# Altium schematic symbol library Converter_ACDC.SchLib: 137 symbols (part 2 of 2)
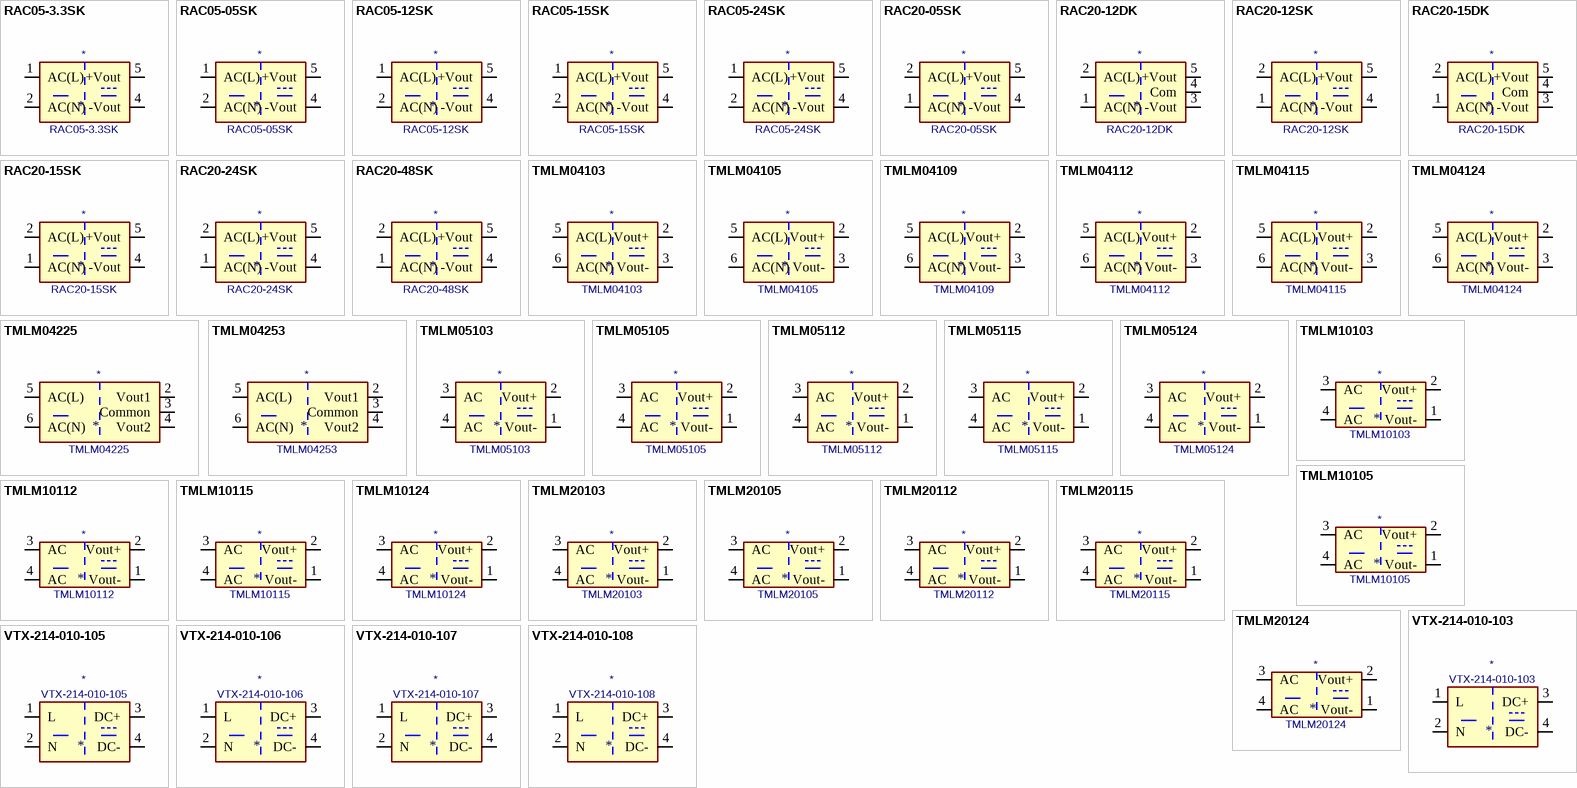
[diagram p4: symbols RAC05-3.3SK to VTX-214-010-108]

## TMLM10112
designator *  value TMLM10112
ki_keywords: Traco Power 10W AC-DC module power supply; ki_description: 12V 833mA AC/DC low noise power module; ki_fp_filters: Converter*ACDC*TRACO*TMLM*10*; Footprint: Converter_ACDC:Converter_ACDC_TRACO_TMLM-10-20_THT; Supplier: https://www.tracopower.com/products/tmlm.pdf
footprint Converter_ACDC_TRACO_TMLM-10-20_THT
pins: 1 Vout- (power), 2 Vout+ (power), 3 AC (power), 4 AC (power)

## TMLM10115
designator *  value TMLM10115
ki_keywords: Traco Power 10W AC-DC module power supply; ki_description: 15V 667mA AC/DC low noise power module; ki_fp_filters: Converter*ACDC*TRACO*TMLM*10*; Footprint: Converter_ACDC:Converter_ACDC_TRACO_TMLM-10-20_THT; Supplier: https://www.tracopower.com/products/tmlm.pdf
footprint Converter_ACDC_TRACO_TMLM-10-20_THT
pins: 1 Vout- (power), 2 Vout+ (power), 3 AC (power), 4 AC (power)

## TMLM10124
designator *  value TMLM10124
ki_keywords: Traco Power 10W AC-DC module power supply; ki_description: 24V 417mA AC/DC low noise power module; ki_fp_filters: Converter*ACDC*TRACO*TMLM*10*; Footprint: Converter_ACDC:Converter_ACDC_TRACO_TMLM-10-20_THT; Supplier: https://www.tracopower.com/products/tmlm.pdf
footprint Converter_ACDC_TRACO_TMLM-10-20_THT
pins: 1 Vout- (power), 2 Vout+ (power), 3 AC (power), 4 AC (power)

## TMLM20103
designator *  value TMLM20103
ki_keywords: Traco Power 20W AC-DC module power supply; ki_description: 3.3V 3600mA AC/DC low noise power module; ki_fp_filters: Converter*ACDC*TRACO*TMLM*10*; Footprint: Converter_ACDC:Converter_ACDC_TRACO_TMLM-10-20_THT; Supplier: https://www.tracopower.com/products/tmlm.pdf
footprint Converter_ACDC_TRACO_TMLM-10-20_THT
pins: 1 Vout- (power), 2 Vout+ (power), 3 AC (power), 4 AC (power)

## TMLM20105
designator *  value TMLM20105
ki_keywords: Traco Power 20W AC-DC module power supply; ki_description: 5V 3600mA AC/DC low noise power module; ki_fp_filters: Converter*ACDC*TRACO*TMLM*10*; Footprint: Converter_ACDC:Converter_ACDC_TRACO_TMLM-10-20_THT; Supplier: https://www.tracopower.com/products/tmlm.pdf
footprint Converter_ACDC_TRACO_TMLM-10-20_THT
pins: 1 Vout- (power), 2 Vout+ (power), 3 AC (power), 4 AC (power)

## TMLM20112
designator *  value TMLM20112
ki_keywords: Traco Power 20W AC-DC module power supply; ki_description: 12V 1660mA AC/DC low noise power module; ki_fp_filters: Converter*ACDC*TRACO*TMLM*10*; Footprint: Converter_ACDC:Converter_ACDC_TRACO_TMLM-10-20_THT; Supplier: https://www.tracopower.com/products/tmlm.pdf
footprint Converter_ACDC_TRACO_TMLM-10-20_THT
pins: 1 Vout- (power), 2 Vout+ (power), 3 AC (power), 4 AC (power)

## TMLM20115
designator *  value TMLM20115
ki_keywords: Traco Power 20W AC-DC module power supply; ki_description: 12V 1330mA AC/DC low noise power module; ki_fp_filters: Converter*ACDC*TRACO*TMLM*10*; Footprint: Converter_ACDC:Converter_ACDC_TRACO_TMLM-10-20_THT; Supplier: https://www.tracopower.com/products/tmlm.pdf
footprint Converter_ACDC_TRACO_TMLM-10-20_THT
pins: 1 Vout- (power), 2 Vout+ (power), 3 AC (power), 4 AC (power)

## TMLM20124
designator *  value TMLM20124
ki_keywords: Traco Power 20W AC-DC module power supply; ki_description: 24V 833mA AC/DC low noise power module; ki_fp_filters: Converter*ACDC*TRACO*TMLM*10*; Footprint: Converter_ACDC:Converter_ACDC_TRACO_TMLM-10-20_THT; Supplier: https://www.tracopower.com/products/tmlm.pdf
footprint Converter_ACDC_TRACO_TMLM-10-20_THT
pins: 1 Vout- (power), 2 Vout+ (power), 3 AC (power), 4 AC (power)

## VTX-214-010-103
designator *  value VTX-214-010-103
ki_keywords: 3V 10W AC-DC module power supply; ki_description: 3V Vigortronix 10W ACDC Converters; ki_fp_filters: Converter*ACDC*Vigortronix*VTX*214*010*xxx*; Footprint: Converter_ACDC:Converter_ACDC_Vigortronix_VTX-214-010-xxx_THT; Supplier: http://www.vigortronix.com/10WattACDCPCBPowerModule.aspx
footprint Converter_ACDC_Vigortronix_VTX-214-010-xxx_THT
pins: 1 L (power), 2 N (power), 3 DC+ (power), 4 DC- (power)

## VTX-214-010-105
designator *  value VTX-214-010-105
ki_keywords: 5V 10W AC-DC module power supply; ki_description: 5V Vigortronix 10W ACDC Converters; ki_fp_filters: Converter*ACDC*Vigortronix*VTX*214*010*xxx*; Footprint: Converter_ACDC:Converter_ACDC_Vigortronix_VTX-214-010-xxx_THT; Supplier: http://www.vigortronix.com/10WattACDCPCBPowerModule.aspx
footprint Converter_ACDC_Vigortronix_VTX-214-010-xxx_THT
pins: 1 L (power), 2 N (power), 3 DC+ (power), 4 DC- (power)

## VTX-214-010-106
designator *  value VTX-214-010-106
ki_keywords: 6V 10W AC-DC module power supply; ki_description: 6V Vigortronix 10W ACDC Converters; ki_fp_filters: Converter*ACDC*Vigortronix*VTX*214*010*xxx*; Footprint: Converter_ACDC:Converter_ACDC_Vigortronix_VTX-214-010-xxx_THT; Supplier: http://www.vigortronix.com/10WattACDCPCBPowerModule.aspx
footprint Converter_ACDC_Vigortronix_VTX-214-010-xxx_THT
pins: 1 L (power), 2 N (power), 3 DC+ (power), 4 DC- (power)

## VTX-214-010-107
designator *  value VTX-214-010-107
ki_keywords: 7.5V 10W AC-DC module power supply; ki_description: 7.5V Vigortronix 10W ACDC Converters; ki_fp_filters: Converter*ACDC*Vigortronix*VTX*214*010*xxx*; Footprint: Converter_ACDC:Converter_ACDC_Vigortronix_VTX-214-010-xxx_THT; Supplier: http://www.vigortronix.com/10WattACDCPCBPowerModule.aspx
footprint Converter_ACDC_Vigortronix_VTX-214-010-xxx_THT
pins: 1 L (power), 2 N (power), 3 DC+ (power), 4 DC- (power)

## VTX-214-010-108
designator *  value VTX-214-010-108
ki_keywords: 8V 10W AC-DC module power supply; ki_description: 8V Vigortronix 10W ACDC Converters; ki_fp_filters: Converter*ACDC*Vigortronix*VTX*214*010*xxx*; Footprint: Converter_ACDC:Converter_ACDC_Vigortronix_VTX-214-010-xxx_THT; Supplier: http://www.vigortronix.com/10WattACDCPCBPowerModule.aspx
footprint Converter_ACDC_Vigortronix_VTX-214-010-xxx_THT
pins: 1 L (power), 2 N (power), 3 DC+ (power), 4 DC- (power)

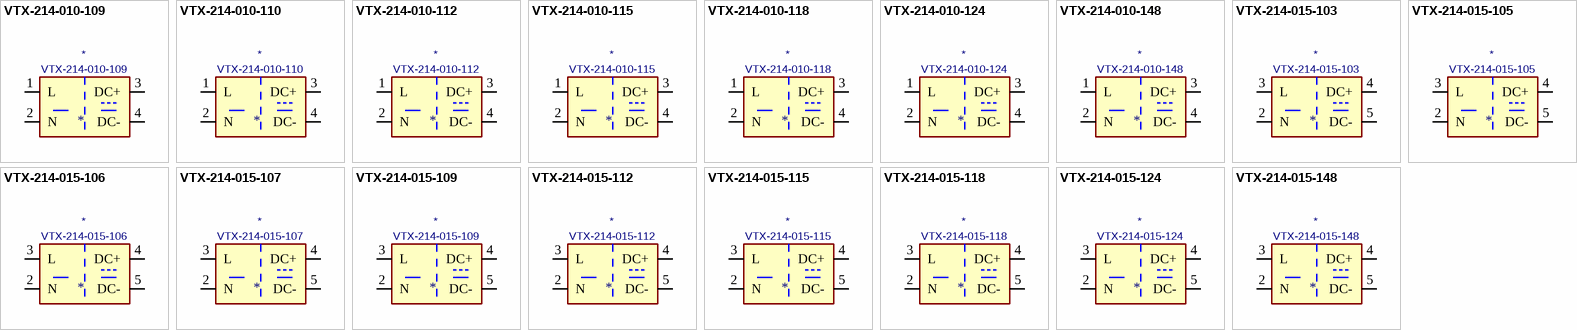
[diagram p3: symbols VTX-214-010-109 to VTX-214-015-148]

## VTX-214-010-109
designator *  value VTX-214-010-109
ki_keywords: 9V 10W AC-DC module power supply; ki_description: 9V Vigortronix 10W ACDC Converters; ki_fp_filters: Converter*ACDC*Vigortronix*VTX*214*010*xxx*; Footprint: Converter_ACDC:Converter_ACDC_Vigortronix_VTX-214-010-xxx_THT; Supplier: http://www.vigortronix.com/10WattACDCPCBPowerModule.aspx
footprint Converter_ACDC_Vigortronix_VTX-214-010-xxx_THT
pins: 1 L (power), 2 N (power), 3 DC+ (power), 4 DC- (power)

## VTX-214-010-110
designator *  value VTX-214-010-110
ki_keywords: 10V 10W AC-DC module power supply; ki_description: 10V Vigortronix 10W ACDC Converters; ki_fp_filters: Converter*ACDC*Vigortronix*VTX*214*010*xxx*; Footprint: Converter_ACDC:Converter_ACDC_Vigortronix_VTX-214-010-xxx_THT; Supplier: http://www.vigortronix.com/10WattACDCPCBPowerModule.aspx
footprint Converter_ACDC_Vigortronix_VTX-214-010-xxx_THT
pins: 1 L (power), 2 N (power), 3 DC+ (power), 4 DC- (power)

## VTX-214-010-112
designator *  value VTX-214-010-112
ki_keywords: 12V 10W AC-DC module power supply; ki_description: 12V Vigortronix 10W ACDC Converters; ki_fp_filters: Converter*ACDC*Vigortronix*VTX*214*010*xxx*; Footprint: Converter_ACDC:Converter_ACDC_Vigortronix_VTX-214-010-xxx_THT; Supplier: http://www.vigortronix.com/10WattACDCPCBPowerModule.aspx
footprint Converter_ACDC_Vigortronix_VTX-214-010-xxx_THT
pins: 1 L (power), 2 N (power), 3 DC+ (power), 4 DC- (power)

## VTX-214-010-115
designator *  value VTX-214-010-115
ki_keywords: 15V 10W AC-DC module power supply; ki_description: 15V Vigortronix 10W ACDC Converters; ki_fp_filters: Converter*ACDC*Vigortronix*VTX*214*010*xxx*; Footprint: Converter_ACDC:Converter_ACDC_Vigortronix_VTX-214-010-xxx_THT; Supplier: http://www.vigortronix.com/10WattACDCPCBPowerModule.aspx
footprint Converter_ACDC_Vigortronix_VTX-214-010-xxx_THT
pins: 1 L (power), 2 N (power), 3 DC+ (power), 4 DC- (power)

## VTX-214-010-118
designator *  value VTX-214-010-118
ki_keywords: 18V 10W AC-DC module power supply; ki_description: 18V Vigortronix 10W ACDC Converters; ki_fp_filters: Converter*ACDC*Vigortronix*VTX*214*010*xxx*; Footprint: Converter_ACDC:Converter_ACDC_Vigortronix_VTX-214-010-xxx_THT; Supplier: http://www.vigortronix.com/10WattACDCPCBPowerModule.aspx
footprint Converter_ACDC_Vigortronix_VTX-214-010-xxx_THT
pins: 1 L (power), 2 N (power), 3 DC+ (power), 4 DC- (power)

## VTX-214-010-124
designator *  value VTX-214-010-124
ki_keywords: 24V 10W AC-DC module power supply; ki_description: 24V Vigortronix 10W ACDC Converters; ki_fp_filters: Converter*ACDC*Vigortronix*VTX*214*010*xxx*; Footprint: Converter_ACDC:Converter_ACDC_Vigortronix_VTX-214-010-xxx_THT; Supplier: http://www.vigortronix.com/10WattACDCPCBPowerModule.aspx
footprint Converter_ACDC_Vigortronix_VTX-214-010-xxx_THT
pins: 1 L (power), 2 N (power), 3 DC+ (power), 4 DC- (power)

## VTX-214-010-148
designator *  value VTX-214-010-148
ki_keywords: 48V 10W AC-DC module power supply; ki_description: 48V Vigortronix 10W ACDC Converters; ki_fp_filters: Converter*ACDC*Vigortronix*VTX*214*010*xxx*; Footprint: Converter_ACDC:Converter_ACDC_Vigortronix_VTX-214-010-xxx_THT; Supplier: http://www.vigortronix.com/10WattACDCPCBPowerModule.aspx
footprint Converter_ACDC_Vigortronix_VTX-214-010-xxx_THT
pins: 1 L (power), 2 N (power), 3 DC+ (power), 4 DC- (power)

## VTX-214-015-103
designator *  value VTX-214-015-103
ki_keywords: 3V 15W AC-DC module power supply; ki_description: 3V Vigortronix 15W ACDC Converters; ki_fp_filters: Converter*ACDC*Vigortronix*VTX*214*015*1xx*; Footprint: Converter_ACDC:Converter_ACDC_Vigortronix_VTX-214-015-1xx_THT; Supplier: http://www.vigortronix.com/15WattSMPSPCBModuleAC-DC
footprint Converter_ACDC_Vigortronix_VTX-214-015-1xx_THT
pins: 1 FG (in) hidden, 2 N (power), 3 L (power), 4 DC+ (power), 5 DC- (power)

## VTX-214-015-105
designator *  value VTX-214-015-105
ki_keywords: 5V 15W AC-DC module power supply; ki_description: 5V Vigortronix 15W ACDC Converters; ki_fp_filters: Converter*ACDC*Vigortronix*VTX*214*015*1xx*; Footprint: Converter_ACDC:Converter_ACDC_Vigortronix_VTX-214-015-1xx_THT; Supplier: http://www.vigortronix.com/15WattSMPSPCBModuleAC-DC
footprint Converter_ACDC_Vigortronix_VTX-214-015-1xx_THT
pins: 1 FG (in) hidden, 2 N (power), 3 L (power), 4 DC+ (power), 5 DC- (power)

## VTX-214-015-106
designator *  value VTX-214-015-106
ki_keywords: 6V 15W AC-DC module power supply; ki_description: 6V Vigortronix 15W ACDC Converters; ki_fp_filters: Converter*ACDC*Vigortronix*VTX*214*015*1xx*; Footprint: Converter_ACDC:Converter_ACDC_Vigortronix_VTX-214-015-1xx_THT; Supplier: http://www.vigortronix.com/15WattSMPSPCBModuleAC-DC
footprint Converter_ACDC_Vigortronix_VTX-214-015-1xx_THT
pins: 1 FG (in) hidden, 2 N (power), 3 L (power), 4 DC+ (power), 5 DC- (power)

## VTX-214-015-107
designator *  value VTX-214-015-107
ki_keywords: 7V 15W AC-DC module power supply; ki_description: 7V Vigortronix 15W ACDC Converters; ki_fp_filters: Converter*ACDC*Vigortronix*VTX*214*015*1xx*; Footprint: Converter_ACDC:Converter_ACDC_Vigortronix_VTX-214-015-1xx_THT; Supplier: http://www.vigortronix.com/15WattSMPSPCBModuleAC-DC
footprint Converter_ACDC_Vigortronix_VTX-214-015-1xx_THT
pins: 1 FG (in) hidden, 2 N (power), 3 L (power), 4 DC+ (power), 5 DC- (power)

## VTX-214-015-109
designator *  value VTX-214-015-109
ki_keywords: 9V 15W AC-DC module power supply; ki_description: 9V Vigortronix 15W ACDC Converters; ki_fp_filters: Converter*ACDC*Vigortronix*VTX*214*015*1xx*; Footprint: Converter_ACDC:Converter_ACDC_Vigortronix_VTX-214-015-1xx_THT; Supplier: http://www.vigortronix.com/15WattSMPSPCBModuleAC-DC
footprint Converter_ACDC_Vigortronix_VTX-214-015-1xx_THT
pins: 1 FG (in) hidden, 2 N (power), 3 L (power), 4 DC+ (power), 5 DC- (power)

## VTX-214-015-112
designator *  value VTX-214-015-112
ki_keywords: 12V 15W AC-DC module power supply; ki_description: 12V Vigortronix 15W ACDC Converters; ki_fp_filters: Converter*ACDC*Vigortronix*VTX*214*015*1xx*; Footprint: Converter_ACDC:Converter_ACDC_Vigortronix_VTX-214-015-1xx_THT; Supplier: http://www.vigortronix.com/15WattSMPSPCBModuleAC-DC
footprint Converter_ACDC_Vigortronix_VTX-214-015-1xx_THT
pins: 1 FG (in) hidden, 2 N (power), 3 L (power), 4 DC+ (power), 5 DC- (power)

## VTX-214-015-115
designator *  value VTX-214-015-115
ki_keywords: 15V 15W AC-DC module power supply; ki_description: 15V Vigortronix 15W ACDC Converters; ki_fp_filters: Converter*ACDC*Vigortronix*VTX*214*015*1xx*; Footprint: Converter_ACDC:Converter_ACDC_Vigortronix_VTX-214-015-1xx_THT; Supplier: http://www.vigortronix.com/15WattSMPSPCBModuleAC-DC
footprint Converter_ACDC_Vigortronix_VTX-214-015-1xx_THT
pins: 1 FG (in) hidden, 2 N (power), 3 L (power), 4 DC+ (power), 5 DC- (power)

## VTX-214-015-118
designator *  value VTX-214-015-118
ki_keywords: 18V 15W AC-DC module power supply; ki_description: 18V Vigortronix 15W ACDC Converters; ki_fp_filters: Converter*ACDC*Vigortronix*VTX*214*015*1xx*; Footprint: Converter_ACDC:Converter_ACDC_Vigortronix_VTX-214-015-1xx_THT; Supplier: http://www.vigortronix.com/15WattSMPSPCBModuleAC-DC
footprint Converter_ACDC_Vigortronix_VTX-214-015-1xx_THT
pins: 1 FG (in) hidden, 2 N (power), 3 L (power), 4 DC+ (power), 5 DC- (power)

## VTX-214-015-124
designator *  value VTX-214-015-124
ki_keywords: 24V 15W AC-DC module power supply; ki_description: 24V Vigortronix 15W ACDC Converters; ki_fp_filters: Converter*ACDC*Vigortronix*VTX*214*015*1xx*; Footprint: Converter_ACDC:Converter_ACDC_Vigortronix_VTX-214-015-1xx_THT; Supplier: http://www.vigortronix.com/15WattSMPSPCBModuleAC-DC
footprint Converter_ACDC_Vigortronix_VTX-214-015-1xx_THT
pins: 1 FG (in) hidden, 2 N (power), 3 L (power), 4 DC+ (power), 5 DC- (power)

## VTX-214-015-148
designator *  value VTX-214-015-148
ki_keywords: 48V 15W AC-DC module power supply; ki_description: 48V Vigortronix 15W ACDC Converters; ki_fp_filters: Converter*ACDC*Vigortronix*VTX*214*015*1xx*; Footprint: Converter_ACDC:Converter_ACDC_Vigortronix_VTX-214-015-1xx_THT; Supplier: http://www.vigortronix.com/15WattSMPSPCBModuleAC-DC
footprint Converter_ACDC_Vigortronix_VTX-214-015-1xx_THT
pins: 1 FG (in) hidden, 2 N (power), 3 L (power), 4 DC+ (power), 5 DC- (power)